# EAGLE library part 62000811722 (library Wuerth_Elektronik_eiCan_Wire_to_Board_Connectors)
WR-WTB 2.00mm Male Horizontal Shrouded Header, 8 Pins=>Code : Con_WTB_2.00_PCB_THT_62000811722 <http://katalog.we-online.de/media/thumbs2/eican/thb_Con_WTB_2.00_PCB_THT_6200xx11722_pf2.jpg> Details see: http://katalog.we-online.de/en/em/620_0xx_117_22 Created 2014-06-05, Karrer Zheng 2014 (C) Würth Elektronik
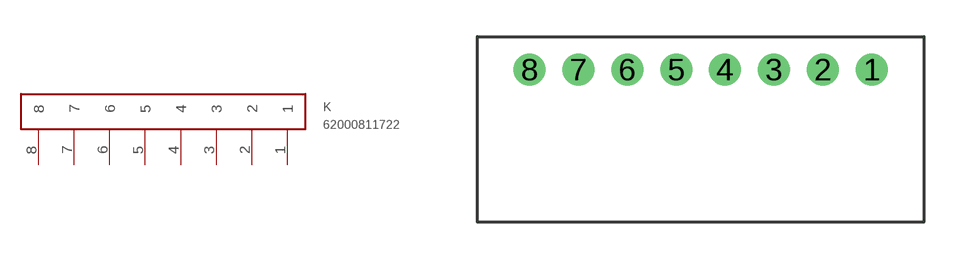
[diagram p32: symbol with the pads of 62000811722; footprint 62000811722]

Designator prefix K

## 62000811722  [62000811722]
1  1
2  2
3  3
4  4
5  5
6  6
7  7
8  8

## Footprint 62000811722 (pad centres in mm)
WR-WTB 2.00mm Male Horizontal Shrouded Header, 8 Pins
drill 0.8: 1 1,0; 2 -1,0; 3 -3,0; 4 -5,0; 5 -7,0; 6 -9,0; 7 -11,0; 8 -13,0